# Altium schematic symbol library 0603x4 10K.Schlib: 1 symbol
Pins are listed as number, name and electrical type; pins without a type are passive.

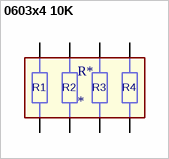
[diagram p0: symbol 0603x4 10K]

## 0603x4 10K
designator R*
10K ±5% 4 1/16W ±200ppm/℃ 0603_x4 Resistor Networks & Arrays RoHS; ComponentLink1Description: LCSC - UNI-ROYAL(Uniroyal Elec) 4D03WGJ0103T5E; ComponentLink1URL: https://lcsc.com/product-detail/Resistor-Networks-Arrays_Uniroyal-Elec-4D03WGJ0103T5E_C29718.html/?href=jlc-SMT; LCSC Part #: C29718; Value: 10K
footprint RESNET 1206-8 CONVEX (4 resistor 3.20x1.60mm, 0.7mm high)
pins: 1, 2, 3, 4, 5, 6, 7, 8
text: R1; R2; R3; R4